# EAGLE library part SFH6916 (library SFH6916)
Optocoupler DC-IN 4-CH Trans DC-OUT Source: Datasheet <http://www.vishay.com/docs/83687/sfh6916.pdf>
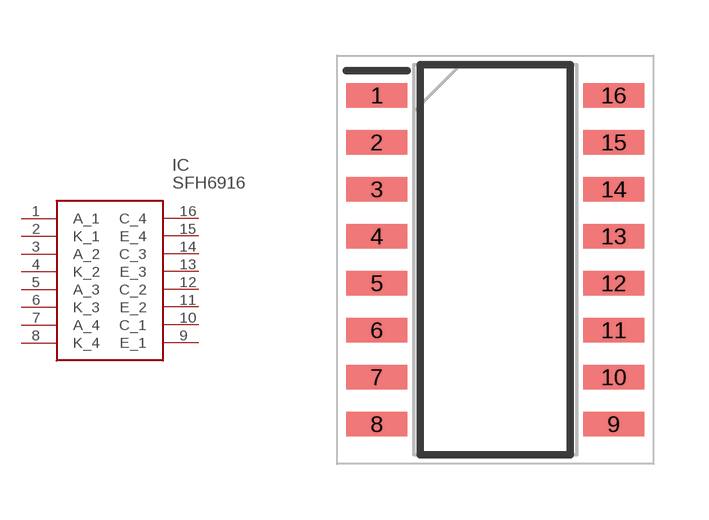
[diagram p0: symbol with the pads of SOIC127P700X230-16N; footprint SOIC127P700X230-16N]

Designator prefix IC

## SFH6916 (Description: Optocoupler DC-IN 4-CH Trans DC-OUT; Height: 2.3mm; Manufacturer_Name: Vishay; Manufacturer_Part_Number: SFH6916; Mouser_Part_Number: 782-SFH6916; Mouser_Price-Stock: https://www.mouser.co.uk/ProductDetail/Vishay-Semiconductors/SFH6916?qs=xCMk%252BIHWTZMHOsdqeojy6Q%3D%3D)  [SOIC127P700X230-16N]
1  A_1
2  K_1
3  A_2
4  K_2
5  A_3
6  K_3
7  A_4
8  K_4
9  E_1
10  C_1
11  E_2
12  C_2
13  E_3
14  C_3
15  E_4
16  C_4

## Footprint SOIC127P700X230-16N (pad centres in mm)
SSOP-16
smd 1.65 x 0.65: 1 -3.2,4.445; 2 -3.2,3.175; 3 -3.2,1.905; 4 -3.2,0.635; 5 -3.2,-0.635; 6 -3.2,-1.905; 7 -3.2,-3.175; 8 -3.2,-4.445; 9 3.2,-4.445; 10 3.2,-3.175; 11 3.2,-1.905; 12 3.2,-0.635; 13 3.2,0.635; 14 3.2,1.905; 15 3.2,3.175; 16 3.2,4.445